# Altium footprint library 接口.PCBLIB: 266 footprints (part 8 of 17)
Each footprint in its own frame and in the unit in brackets; x right, y up, seen from the top. Pads: shape width x height; smd on the part's side, far side on the other; paste and mask are expansions set on the pad; w line width, h text height; cw(c..) or ccw(c..) is an arc to the next point about the centre after c.
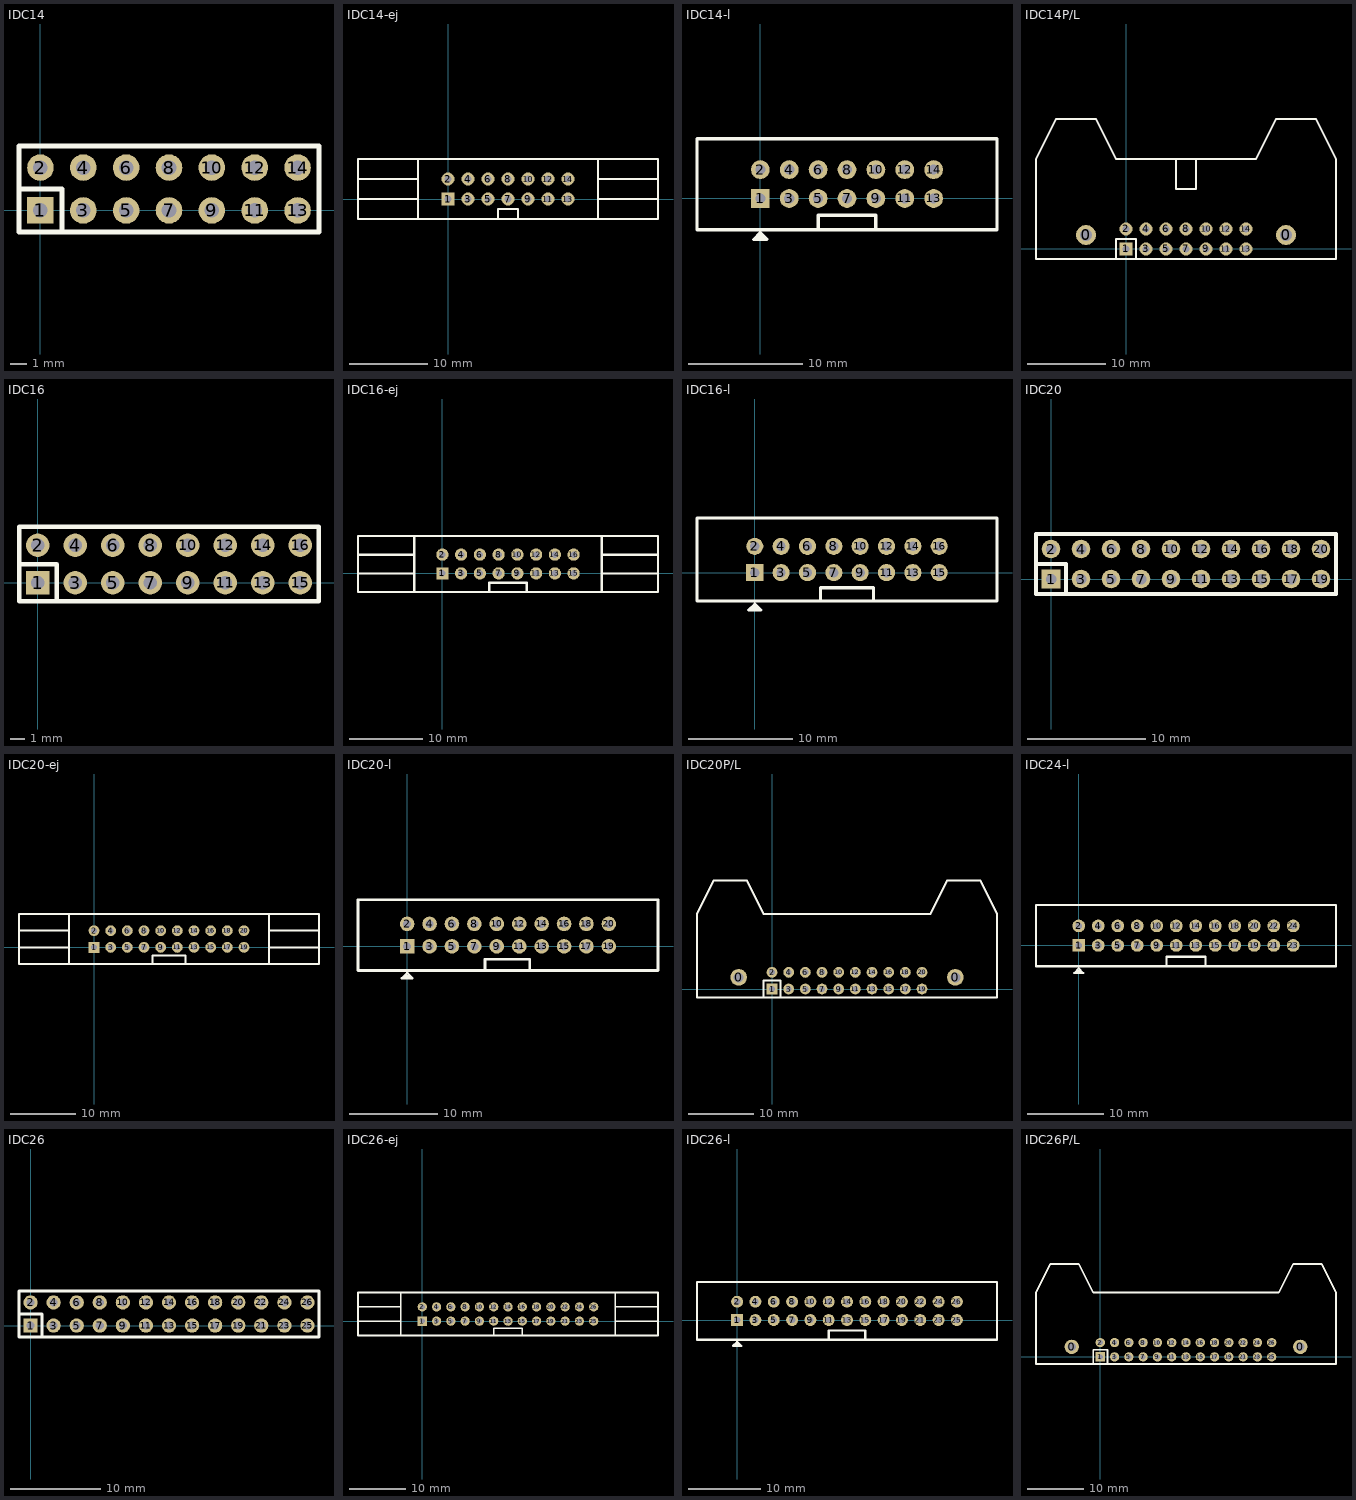
[diagram p7: the footprints below, top view; thin cyan lines are the x and y axes]

## IDC14 [mil]
pads (14):
  rect 62x62 hole 34: 1(0,0)
  round 62 hole 34: 2(0,100) 3(100,0) 4(100,100) 5(200,0) 6(200,100) 7(300,0) 8(300,100) 9(400,0) 10(400,100) 11(500,0) 12(500,100) 13(600,0) 14(600,100)
TopOverlay:
  lines w12: -50,50 50,50 50,-50 ; -50,-50 -50,150 650,150 650,-50 -50,-50

## IDC14-ej [mil]
pads (14):
  rect 65x65 hole 35: 1(0,0)
  round 65 hole 35: 2(0,100) 3(100,0) 4(100,100) 5(200,0) 6(200,100) 7(300,0) 8(300,100) 9(400,0) 10(400,100) 11(500,0) 12(500,100) 13(600,0) 14(600,100)
TopOverlay:
  lines w12: -450,0 -150,0 ; -450,100 -150,100 ; -150,-100 -150,200 ; 250,-100 250,-50 350,-50 350,-100 ; 750,-100 750,200 ; 750,0 1050,0 ; 750,100 1050,100 ; -450,-100 1050,-100 1050,200 -450,200 -450,-100

## IDC14-l [mil]
pads (14):
  rect 65x65 hole 35: 1(0,0)
  round 65 hole 35: 2(0,100) 3(100,0) 4(100,100) 5(200,0) 6(200,100) 7(300,0) 8(300,100) 9(400,0) 10(400,100) 11(500,0) 12(500,100) 13(600,0) 14(600,100)
TopOverlay:
  lines w10: 7.87,-137.8 0,-129.92 -11.81,-141.73 -23.62,-141.73 ; -23.62,-141.73 23.62,-141.73 0,-118.11 -23.62,-141.73
  lines w12: 200,-107.48 200,-57.48 400,-57.48 400,-107.48 ; -219.29,-107.48 819.29,-107.48 819.29,207.48 -219.29,207.48 -219.29,-107.48

## IDC14P/L [mil]
pads (16):
  round 100 hole 60: 0(-200,70) 0(800,70)
  rect 65x65 hole 35: 1(0,0)
  round 65 hole 35: 2(0,100) 3(100,0) 4(100,100) 5(200,0) 6(200,100) 7(300,0) 8(300,100) 9(400,0) 10(400,100) 11(500,0) 12(500,100) 13(600,0) 14(600,100)
TopOverlay:
  lines w12: -50,-50 -50,50 50,50 50,-50 ; 250,450 250,300 350,300 350,450 ; -450,-50 -450,450 -350,650 -150,650 -50,450 650,450 750,650 950,650 1050,450 1050,-50 -450,-50

## IDC16 [mil]
pads (16):
  rect 62x62 hole 35: 1(0,0)
  round 62 hole 35: 2(0,100) 3(100,0) 4(100,100) 5(200,0) 6(200,100) 7(300,0) 8(300,100) 9(400,0) 10(400,100) 11(500,0) 12(500,100) 13(600,0) 14(600,100) 15(700,0) 16(700,100)
TopOverlay:
  lines w12: -50,50 50,50 50,-50 ; -50,-50 -50,150 750,150 750,-50 -50,-50

## IDC16-ej [mil]
pads (16):
  rect 65x65 hole 35: 1(0,0)
  round 65 hole 35: 2(0,100) 3(100,0) 4(100,100) 5(200,0) 6(200,100) 7(300,0) 8(300,100) 9(400,0) 10(400,100) 11(500,0) 12(500,100) 13(600,0) 14(600,100) 15(700,0) 16(700,100)
TopOverlay:
  lines w12: -450,0 -150,0 ; -450,100 -150,100 ; -150,-100 -150,200 ; 250,-100 250,-50 450,-50 450,-100 ; 850,-100 850,200 ; 850,0 1150,0 ; 850,100 1150,100 ; -450,-100 1150,-100 1150,200 -450,200 -450,-100

## IDC16-l [mil]
pads (16):
  rect 65x65 hole 35: 1(0,0)
  round 65 hole 35: 2(0,100) 3(100,0) 4(100,100) 5(200,0) 6(200,100) 7(300,0) 8(300,100) 9(400,0) 10(400,100) 11(500,0) 12(500,100) 13(600,0) 14(600,100) 15(700,0) 16(700,100)
TopOverlay:
  lines w10: 7.87,-137.8 0,-129.92 -11.81,-141.73 -23.62,-141.73 ; -23.62,-141.73 23.62,-141.73 0,-118.11 -23.62,-141.73
  lines w12: 250,-107.48 250,-57.48 450,-57.48 450,-107.48 ; -219.29,-107.48 919.29,-107.48 919.29,207.48 -219.29,207.48 -219.29,-107.48

## IDC20 [mil]
pads (20):
  rect 62x62 hole 35: 1(0,0)
  round 62 hole 35: 2(0,100) 3(100,0) 4(100,100) 5(200,0) 6(200,100) 7(300,0) 8(300,100) 9(400,0) 10(400,100) 11(500,0) 12(500,100) 13(600,0) 14(600,100) 15(700,0) 16(700,100) 17(800,0) 18(800,100) 19(900,0) 20(900,100)
TopOverlay:
  lines w12: -50,50 50,50 50,-50 ; -50,-50 950,-50 950,150 -50,150 -50,-50

## IDC20-ej [mil]
pads (20):
  rect 65x65 hole 35: 1(0,0)
  round 65 hole 35: 2(0,100) 3(100,0) 4(100,100) 5(200,0) 6(200,100) 7(300,0) 8(300,100) 9(400,0) 10(400,100) 11(500,0) 12(500,100) 13(600,0) 14(600,100) 15(700,0) 16(700,100) 17(800,0) 18(800,100) 19(900,0) 20(900,100)
TopOverlay:
  lines w12: -450,0 -150,0 ; -450,100 -150,100 ; -150,-100 -150,200 ; 350,-100 350,-50 550,-50 550,-100 ; 1050,-100 1050,200 ; 1050,0 1350,0 ; 1050,100 1350,100 ; -450,-100 -450,200 1350,200 1350,-100 -450,-100

## IDC20-l [mil]
pads (20):
  rect 65x65 hole 35: 1(0,0)
  round 65 hole 35: 2(0,100) 3(100,0) 4(100,100) 5(200,0) 6(200,100) 7(300,0) 8(300,100) 9(400,0) 10(400,100) 11(500,0) 12(500,100) 13(600,0) 14(600,100) 15(700,0) 16(700,100) 17(800,0) 18(800,100) 19(900,0) 20(900,100)
TopOverlay:
  lines w10: 7.87,-137.8 0,-129.92 -11.81,-141.73 -23.62,-141.73 ; -23.62,-141.73 23.62,-141.73 0,-118.11 -23.62,-141.73
  lines w12: 347.24,-107.48 347.24,-57.48 547.24,-57.48 547.24,-107.48 ; -219.29,-107.48 1119.29,-107.48 1119.29,207.48 -219.29,207.48 -219.29,-107.48

## IDC20P/L [mil]
pads (22):
  round 100 hole 60: 0(-200,70) 0(1100,70)
  rect 65x65 hole 35: 1(0,0)
  round 65 hole 35: 2(0,100) 3(100,0) 4(100,100) 5(200,0) 6(200,100) 7(300,0) 8(300,100) 9(400,0) 10(400,100) 11(500,0) 12(500,100) 13(600,0) 14(600,100) 15(700,0) 16(700,100) 17(800,0) 18(800,100) 19(900,0) 20(900,100)
TopOverlay:
  lines w12: -50,-50 -50,50 50,50 50,-50 ; -450,-50 -450,450 -350,650 -150,650 -50,450 950,450 1050,650 1250,650 1350,450 1350,-50 -450,-50

## IDC24-l [mil]
pads (24):
  rect 65x65 hole 35: 1(0,0)
  round 65 hole 35: 2(0,100) 3(100,0) 4(100,100) 5(200,0) 6(200,100) 7(300,0) 8(300,100) 9(400,0) 10(400,100) 11(500,0) 12(500,100) 13(600,0) 14(600,100) 15(700,0) 16(700,100) 17(800,0) 18(800,100) 19(900,0) 20(900,100) 21(1000,0) 22(1000,100) 23(1100,0) 24(1100,100)
TopOverlay:
  lines w10: 7.87,-137.8 0,-129.92 -11.81,-141.73 -23.62,-141.73 ; -23.62,-141.73 0,-118.11 23.62,-141.73 -23.62,-141.73
  lines w12: 450,-107.48 450,-57.48 650,-57.48 650,-107.48 ; -219.29,-107.48 -219.29,207.48 1319.29,207.48 1319.29,-107.48 -219.29,-107.48

## IDC26 [mil]
pads (26):
  rect 62x62 hole 35: 1(0,0)
  round 62 hole 35: 2(0,100) 3(100,0) 4(100,100) 5(200,0) 6(200,100) 7(300,0) 8(300,100) 9(400,0) 10(400,100) 11(500,0) 12(500,100) 13(600,0) 14(600,100) 15(700,0) 16(700,100) 17(800,0) 18(800,100) 19(900,0) 20(900,100) 21(1000,0) 22(1000,100) 23(1100,0) 24(1100,100) 25(1200,0) 26(1200,100)
TopOverlay:
  lines w12: -50,50 50,50 50,-50 ; -50,-50 1250,-50 1250,150 -50,150 -50,-50

## IDC26-ej [mil]
pads (26):
  rect 65x65 hole 35: 1(0,0)
  round 65 hole 35: 2(0,100) 3(100,0) 4(100,100) 5(200,0) 6(200,100) 7(300,0) 8(300,100) 9(400,0) 10(400,100) 11(500,0) 12(500,100) 13(600,0) 14(600,100) 15(700,0) 16(700,100) 17(800,0) 18(800,100) 19(900,0) 20(900,100) 21(1000,0) 22(1000,100) 23(1100,0) 24(1100,100) 25(1200,0) 26(1200,100)
TopOverlay:
  lines w12: -450,0 -150,0 ; -450,100 -150,100 ; -150,-100 -150,200 ; 500,-100 500,-50 700,-50 700,-100 ; 1350,-100 1350,200 ; 1350,0 1650,0 ; 1350,100 1650,100 ; -450,-100 -450,200 1650,200 1650,-100 -450,-100

## IDC26-l [mil]
pads (26):
  rect 65x65 hole 35: 1(0,0)
  round 65 hole 35: 2(0,100) 3(100,0) 4(100,100) 5(200,0) 6(200,100) 7(300,0) 8(300,100) 9(400,0) 10(400,100) 11(500,0) 12(500,100) 13(600,0) 14(600,100) 15(700,0) 16(700,100) 17(800,0) 18(800,100) 19(900,0) 20(900,100) 21(1000,0) 22(1000,100) 23(1100,0) 24(1100,100) 25(1200,0) 26(1200,100)
TopOverlay:
  lines w10: 7.87,-137.8 0,-129.92 -11.81,-141.73 -23.62,-141.73 ; -23.62,-141.73 23.62,-141.73 0,-118.11 -23.62,-141.73
  lines w12: 500,-107.48 500,-57.48 700,-57.48 700,-107.48 ; -219.29,-107.48 1419.29,-107.48 1419.29,207.48 -219.29,207.48 -219.29,-107.48

## IDC26P/L [mil]
pads (28):
  round 100 hole 60: 0(-200,70) 0(1400,70)
  rect 65x65 hole 35: 1(0,0)
  round 65 hole 35: 2(0,100) 3(100,0) 4(100,100) 5(200,0) 6(200,100) 7(300,0) 8(300,100) 9(400,0) 10(400,100) 11(500,0) 12(500,100) 13(600,0) 14(600,100) 15(700,0) 16(700,100) 17(800,0) 18(800,100) 19(900,0) 20(900,100) 21(1000,0) 22(1000,100) 23(1100,0) 24(1100,100) 25(1200,0) 26(1200,100)
TopOverlay:
  lines w12: -50,-50 -50,50 50,50 50,-50 ; -450,-50 -450,450 -350,650 -150,650 -50,450 1250,450 1350,650 1550,650 1650,450 1650,-50 -450,-50